# Altium schematic symbol library boxer_ic.SchLib: 29 symbols
Pins are listed as number, name and electrical type; pins without a type are passive.

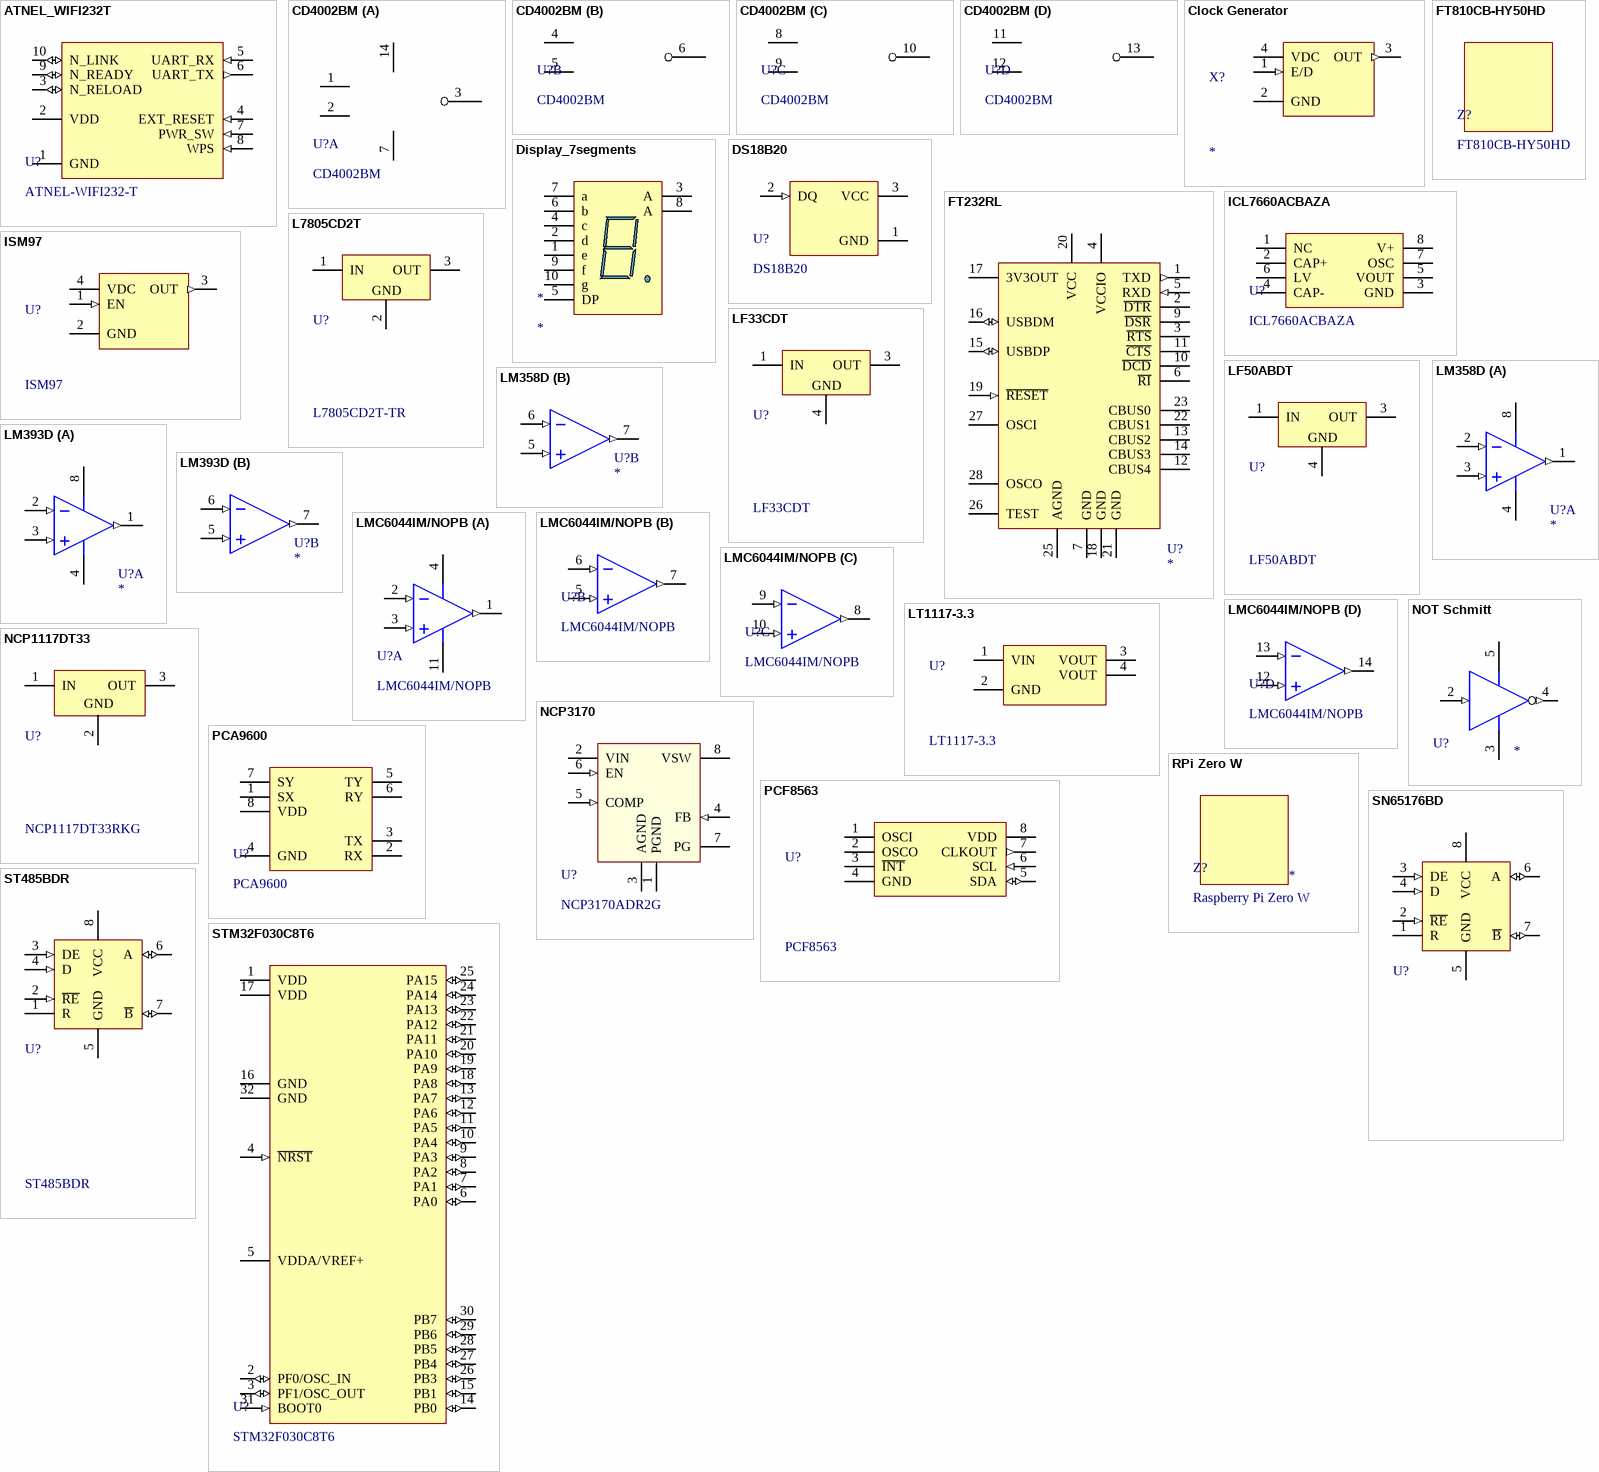
[diagram p0: symbols ATNEL_WIFI232T to STM32F030C8T6]

## ATNEL_WIFI232T
designator U?, comment ATNEL-WIFI232-T
footprint ATNEL_WIFI232T
pins: 1 GND (power), 2 VDD (power), 3 N_RELOAD (io), 4 EXT_RESET (in), 5 UART_RX (in), 6 UART_TX (out), 7 PWR_SW (in), 8 WPS (in), 9 N_READY (io), 10 N_LINK (io)

## CD4002BM
designator U?
CMOS NOR Gate
footprint SO14 (14-Pin Small Outline Integrated Circuit 1.27 mm Pitch, IPC Medium Density)
part A pins: 1 A, 2 B, 3 OUT1, 7 GND (power), 14 VDD (power)
part B pins: 4 C, 5 D, 6 OUT2
part C pins: 8 E, 9 F, 10 OUT3
part D pins: 11 G, 12 H, 13 OUT4

## Clock Generator
designator X?
IC Clock Generator
footprint CFPS-39
pins: 1 E/D (in), 2 GND (power), 3 OUT (out), 4 VDC (power)

## Display_7segments
designator *
pins: 1 e "Cathode", 2 d "Cathode", 3 A "Common Anode", 4 c "Cathode", 5 DP "Cathode", 6 b "Cathode", 7 a "Cathode", 8 A "Common Anode", 9 f "Cathode", 10 g "Cathode"

## DS18B20
designator U?
DS18B20  Programmable Resolution  1-Wire Digital Thermometer
footprint TO-92 (TO, Flat Index; 3 In-Line, Axial Leads; Body Dia. 4.6mm; Leads 0.41 x 0.39 mm (max))
pins: 1 GND (power), 2 DQ (in), 3 VCC (power)

## FT232RL
designator U?
FT232R USB UART; Manufacturer: *; Note: *; ManufacturerPartNo: *
footprint SSOP-28 (28-Pin SSOP 0.65 mm Pitch)
pins: 1 TXD (out), 2 ~{DTR}, 3 ~{RTS}, 4 VCCIO (power), 5 RXD (in), 6 ~{RI}, 7 GND (power), 8 NC hidden to NC, 9 ~{DSR}, 10 ~{DCD}, 11 ~{CTS}, 12 CBUS4, 13 CBUS2, 14 CBUS3, 15 USBDP (io), 16 USBDM (io), 17 3V3OUT (power), 18 GND (power), 19 ~{RESET} (in), 20 VCC (power), 21 GND (power), 22 CBUS1, 23 CBUS0, 24 NC hidden to NC, 25 AGND (power), 26 TEST, 27 OSCI, 28 OSCO
2 alternate drawings of the same symbol

## FT810CB-HY50HD
designator Z?
footprint FT810CB-HY50HD

## ICL7660ACBAZA
designator U?
DC-DC converter
footprint SO8
pins: 1 NC, 2 CAP+, 3 GND (power), 4 CAP-, 5 VOUT (power), 6 LV, 7 OSC, 8 V+ (power)

## ISM97
designator U?
Ceramic Package SMD Oscillator, TTL / HC-MOS
footprint ISM97
pins: 1 EN (in), 2 GND (power), 3 OUT (out), 4 VDC (power)

## L7805CD2T
designator U?, comment L7805CD2T-TR
500mA, Very Low Drop (0.45V) Voltage Regulator
footprint D2PAK (D2-PAK, 4-Leads, Body 8.8x10.4mm, Pitch 2.54mm, Lead Span 15.1mm, IPC High Density)
pins: 1 IN (power), 2 GND (power), 3 OUT (power)

## LF33CDT
designator U?
500mA, Very Low Drop (0.45V) Voltage Regulator; Published: 24-Aug-2001; LatestRevisionDate: 06-Jun-2005; LatestRevisionNote: PCB pads lengthened.; DatasheetVersion: Feb-2004; PackageVersion: Jun-2004; PackageReference: TO-252; Publisher: Altium Limited; PackageDescription: D-PAK/TO-252-AA; 3 Leads (1 Cropped); Body 10.1 (inc. leads) x 6.6 mm (LxW max); ComponentLink1Description: Manufacturer Link; ComponentLink1URL: http://www.st.com/; ComponentLink2Description: Datasheet; ComponentLink2URL: http://www.st.com/stonline/books/pdf/docs/2574.pdf
footprint TO-252 (D-PAK/TO-252-AA; 3 Leads (1 Cropped); Body 10.1 (inc. leads) x 6.6 mm (LxW max))
pins: 1 IN (power), 3 OUT (power), 4 GND (power)

## LF50ABDT
designator U?
500mA, Very Low Drop (0.45V) Voltage Regulator; Published: 24-Aug-2001; LatestRevisionDate: 06-Jun-2005; LatestRevisionNote: PCB pads lengthened.; DatasheetVersion: Feb-2004; PackageVersion: Jun-2004; PackageReference: TO-252; Publisher: Altium Limited; PackageDescription: D-PAK/TO-252-AA; 3 Leads (1 Cropped); Body 10.1 (inc. leads) x 6.6 mm (LxW max); ComponentLink1Description: Manufacturer Link; ComponentLink1URL: http://www.st.com/; ComponentLink2Description: Datasheet; ComponentLink2URL: http://www.st.com/stonline/books/pdf/docs/2574.pdf
footprint TO-252 (D-PAK/TO-252-AA; 3 Leads (1 Cropped); Body 10.1 (inc. leads) x 6.6 mm (LxW max))
pins: 1 IN (power), 3 OUT (power), 4 GND (power)

## LM358D
designator U?
Dual Operational Amplifier
simulation model LM358 (SUBCKT)
footprint SO8
part A pins: 1 OUT (out), 2 IN- (in), 3 IN+ (in), 4 VCC- (power), 8 VCC+ (power)
part B pins: 5 IN+ (in), 6 IN- (in), 7 OUT (out)

## LM393D
designator U?
Low-Power Dual Voltage Comparator
footprint SO8
part A pins: 1 OUT (out), 2 IN- (in), 3 IN+ (in), 4 VCC- (power), 8 VCC+ (power)
part B pins: 5 IN+ (in), 6 IN- (in), 7 OUT (out)

## LMC6044IM/NOPB
designator U?
CMOS Quad Micropower Operational Amplifier, 14-pin Narrow SOIC
footprint SO14 (14-Pin Small Outline Integrated Circuit 1.27 mm Pitch, IPC Medium Density)
part A pins: 1 OUT (out), 2 IN- (in), 3 IN+ (in), 4 VCC+ (power), 11 VCC- (power)
part B pins: 5 IN+ (in), 6 IN- (in), 7 OUT (out)
part C pins: 8 OUT (out), 9 IN- (in), 10 IN+ (in)
part D pins: 12 IN+ (in), 13 IN- (in), 14 OUT (out)

## LT1117-3.3
designator U?
3V3 LDO in SOT-223
footprint SOT-223
pins: 1 VIN (power), 2 GND (power), 3 VOUT (power), 4 VOUT (power)

## NCP1117DT33
designator U?, comment NCP1117DT33RKG
1A LDO
footprint D2PAK (D2-PAK, 4-Leads, Body 8.8x10.4mm, Pitch 2.54mm, Lead Span 15.1mm, IPC High Density)
pins: 1 IN (power), 2 GND (power), 3 OUT (power)

## NCP3170
designator U?, comment NCP3170ADR2G
Synchronous PWM Switching Converter
footprint SO8
pins: 1 PGND (power), 2 VIN (power), 3 AGND (power), 4 FB (in), 5 COMP (in), 6 EN (in), 7 PG, 8 VSW (power)

## NOT Schmitt
designator U?
TinyLogic ULP Inverter with Schmitt Trigger Input; Value: *
footprint SOP5(6) (Small Outline; 6 Leads (1 Absent); Body Width 4.4 mm; Pitch 1.27 mm)
pins: 1 NC (power) hidden, 2 A (in), 3 GND (power), 4 Y (out), 5 VCC (power)

## PCA9600
designator U?
Dual bidirectional I2C bus buffer
footprint SO8
pins: 1 SX, 2 RX, 3 TX, 4 GND, 5 TY, 6 RY, 7 SY, 8 VDD

## PCF8563
designator U?
RTC
footprint SO8_L (SOIC, 8-Leads, Body 4.9x3.9mm, Pitch 1.27mm, IPC High Density)
pins: 1 OSCI, 2 OSCO, 3 ~{INT} (oc), 4 GND (power), 5 SDA (io), 6 SCL (in), 7 CLKOUT (out), 8 VDD (power)

## RPi Zero W
designator Z?, comment Raspberry Pi Zero W
Value: *
footprint RPI_ZERO

## SN65176BD
designator U?
Differential Bus Transceiver; Note: Receiver Hysteresis of 50mV Typical; Published: 15-May-2002; LatestRevisionDate: 13-Apr-2006; LatestRevisionNote: IPC-7351 Footprint Added.; DatasheetVersion: Sep-1989; PackageVersion: Jan-1998; PackageReference: D008; Publisher: Altium Limited; PackageDescription: 8-Pin Small Outline Integrated Circuit 1.27 mm Pitch; Code_IPC: SOIC127P600-8; ComponentLink1Description: Manufacturer Link; ComponentLink1URL: http://www.ti.com/; ComponentLink2Description: Datasheet; ComponentLink2URL: http://www-s.ti.com/sc/ds/sn75176b.pdf
footprint SO8
pins: 1 R (hiz), 2 ~{RE} (in), 3 DE (in), 4 D (in), 5 GND (power), 6 A (io), 7 ~{B} (io), 8 VCC (power)

## ST485BDR
designator U?
RS-422/RS-485 Interface IC Hi-Spd Lo Pwr Trans; ComponentLink1Description: Manufacturer Link; ComponentLink1URL: http://www.ti.com/; ComponentLink2Description: Datasheet; ComponentLink2URL: http://www-s.ti.com/sc/ds/sn75176b.pdf
footprint SO8
pins: 1 R (hiz), 2 ~{RE} (in), 3 DE (in), 4 D (in), 5 GND (power), 6 A (io), 7 ~{B} (io), 8 VCC (power)

## STM32F030C8T6
designator U?
Microcontroler ARM; Flash:32kB; 48MHz; SRAM:4kB; LQFP32
footprint LQFP-32 (Thin QFP, 32-Leads, Body 7x7mm, Pitch 0.8mm, IPC Medium Density)
pins: 1 VDD (power), 2 PF0/OSC_IN (io), 3 PF1/OSC_OUT (io), 4 ~{NRST} (in), 5 VDDA/VREF+ (power), 6 PA0 (io), 7 PA1 (io), 8 PA2 (io), 9 PA3 (io), 10 PA4 (io), 11 PA5 (io), 12 PA6 (io), 13 PA7 (io), 14 PB0 (io), 15 PB1 (io), 16 GND (power), 17 VDD (power), 18 PA8 (io), 19 PA9 (io), 20 PA10 (io), 21 PA11 (io), 22 PA12 (io), 23 PA13 (io), 24 PA14 (io), 25 PA15 (io), 26 PB3 (io), 27 PB4 (io), 28 PB5 (io), 29 PB6 (io), 30 PB7 (io), 31 BOOT0 (in), 32 GND (power)

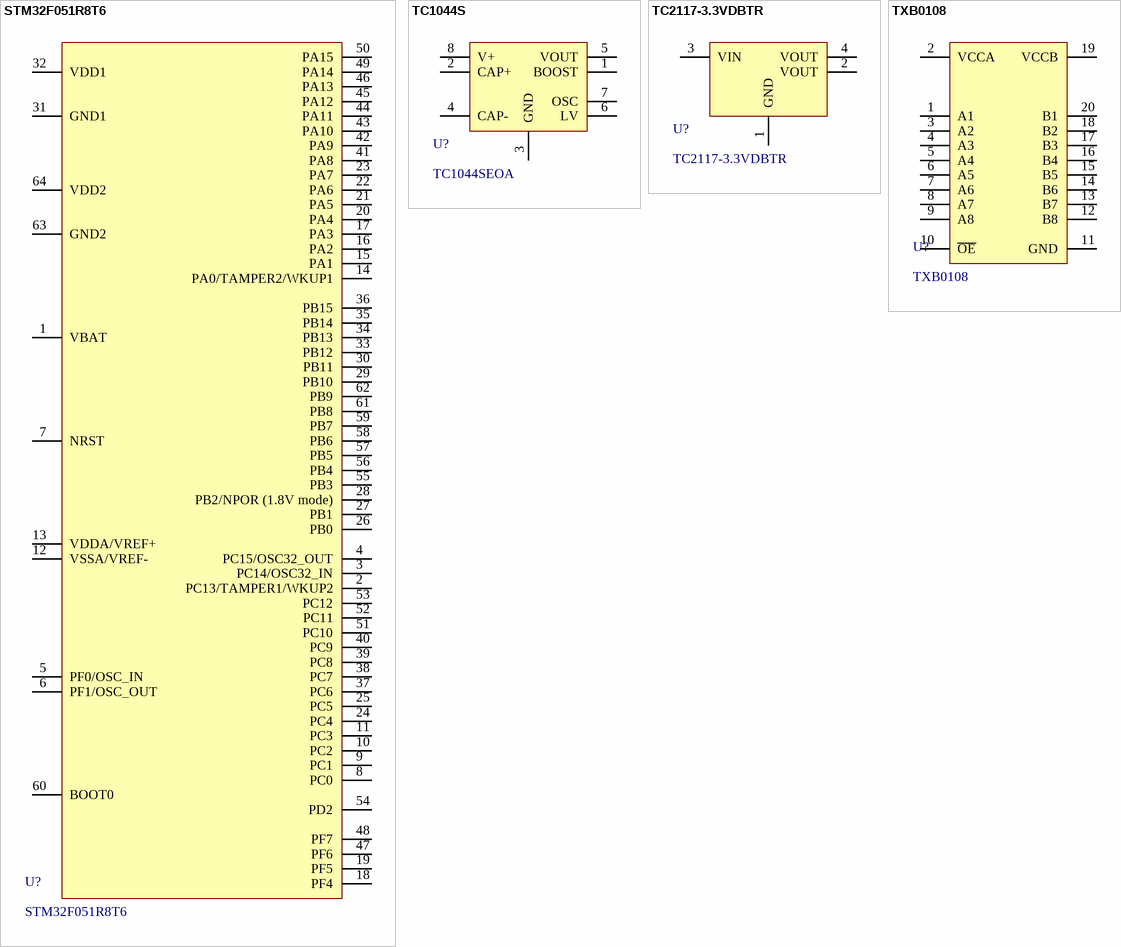
[diagram p1: symbols STM32F051R8T6 to TXB0108]

## STM32F051R8T6
designator U?
Entry-level ARM Cortex-M0 MCU with 64 Kbytes Flash, 48 MHz CPU, motor control and CEC functions
footprint LQFP-64 (64-Pin LQFP 0.5 mm Pitch)
pins: 1 VBAT (power), 2 PC13/TAMPER1/WKUP2, 3 PC14/OSC32_IN, 4 PC15/OSC32_OUT, 5 PF0/OSC_IN, 6 PF1/OSC_OUT, 7 NRST, 8 PC0, 9 PC1, 10 PC2, 11 PC3, 12 VSSA/VREF-, 13 VDDA/VREF+, 14 PA0/TAMPER2/WKUP1, 15 PA1, 16 PA2, 17 PA3, 18 PF4, 19 PF5, 20 PA4, 21 PA5, 22 PA6, 23 PA7, 24 PC4, 25 PC5, 26 PB0, 27 PB1, 28 PB2/NPOR (1.8V mode), 29 PB10, 30 PB11, 31 GND1 (power), 32 VDD1 (power), 33 PB12, 34 PB13, 35 PB14, 36 PB15, 37 PC6, 38 PC7, 39 PC8, 40 PC9, 41 PA8, 42 PA9, 43 PA10, 44 PA11, 45 PA12, 46 PA13, 47 PF6, 48 PF7, 49 PA14, 50 PA15, 51 PC10, 52 PC11, 53 PC12, 54 PD2, 55 PB3, 56 PB4, 57 PB5, 58 PB6, 59 PB7, 60 BOOT0, 61 PB8, 62 PB9, 63 GND2 (power), 64 VDD2 (power)

## TC1044S
designator U?, comment TC1044SEOA
Charge Pump DC-TO-DC Voltage Converter
pins: 1 BOOST, 2 CAP+, 3 GND (power), 4 CAP-, 5 VOUT (power), 6 LV, 7 OSC, 8 V+ (power)

## TC2117-3.3VDBTR
designator U?
800 mA Fixed Low Dropout Positive Regulator
footprint SOT-223
pins: 1 GND (power), 2 VOUT (power), 3 VIN (power), 4 NC hidden, 4 VOUT (power)

## TXB0108
designator U?
TXB0108 8-Bit Bidirectional Voltage-Level Translator with Auto-Direction Sensing and  ±15-kV ESD Protection
footprint DB020 (SSOP, Plastic; 20 Leads; Body Width 5.3 mm; Pitch 0.65 mm)
pins: 1 A1, 2 VCCA, 3 A2, 4 A3, 5 A4, 6 A5, 7 A6, 8 A7, 9 A8, 10 ~{OE}, 11 GND, 12 B8, 13 B7, 14 B6, 15 B5, 16 B4, 17 B3, 18 B2, 19 VCCB, 20 B1